# Altium integrated library Hasel Smart Surface Lib.IntLib: 11 symbols
Pins are listed as number, name and electrical type; pins without a type are passive.

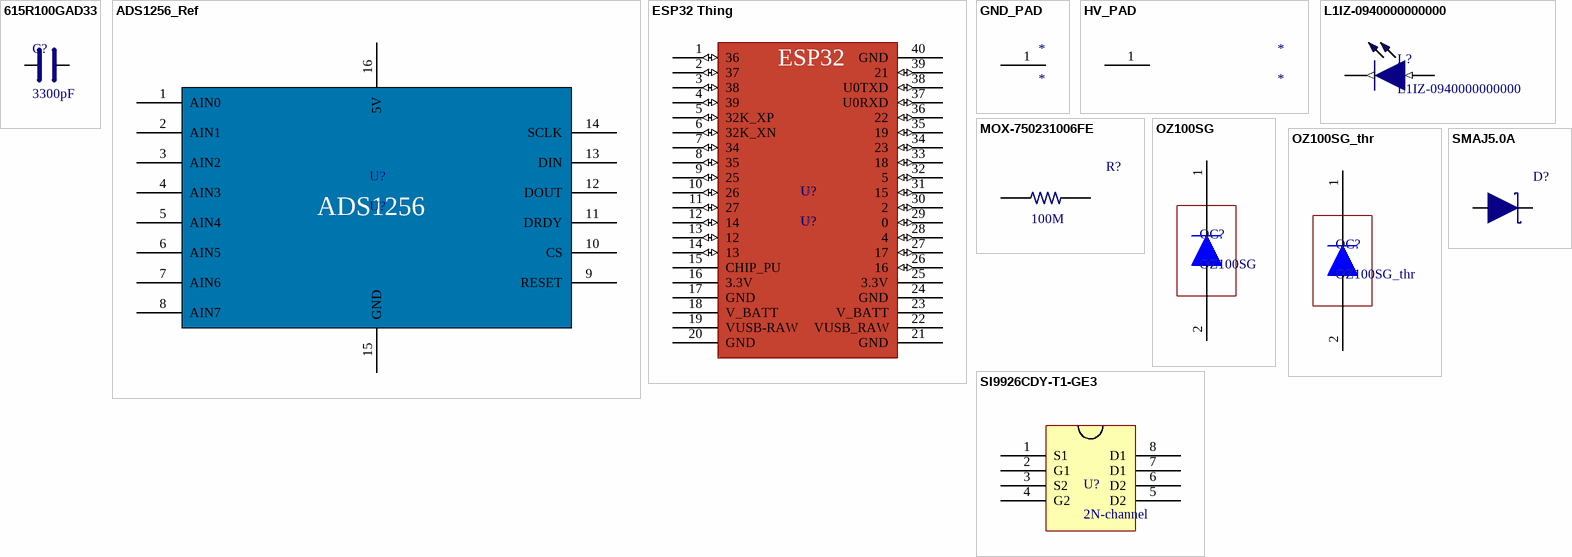
[diagram p0: symbols 615R100GAD33 to SMAJ5.0A]

## 615R100GAD33
designator C?  value 3300pF  (hidden comment: 615R100GAD33)
3300pF 10kV Ceramic Cap; Manufacturer: Vishay/ Cera-mite; Supplier: Mouser; Unit Price: $3.47; Voltage Rated: 10kV; Manufacturer Part Number: 615R100GAD33; Supplier Part Number: 75-615R100GAD33
footprint 615R100GAD33
pins: 1, 2

## ADS1256_Ref
designator U?, comment U?
pins: 1 AIN0, 2 AIN1, 3 AIN2, 4 AIN3, 5 AIN4, 6 AIN5, 7 AIN6, 8 AIN7, 9 RESET, 10 CS, 11 DRDY, 12 DOUT, 13 DIN, 14 SCLK, 15 GND, 16 5V
text: ADS1256

## ESP32 Thing
designator U?, comment U?
footprint ESP32 Thing
pins: 1 36 (io), 2 37 (io), 3 38 (io), 4 39 (io), 5 32K_XP (io), 6 32K_XN (io), 7 34 (io), 8 35 (io), 9 25 (io), 10 26 (io), 11 27 (io), 12 14 (io), 13 12 (io), 14 13 (io), 15 CHIP_PU, 16 3.3V (power), 17 GND (power), 18 V_BATT (power), 19 VUSB-RAW (power), 20 GND (power), 21 GND (power), 22 VUSB_RAW (power), 23 V_BATT (power), 24 GND (power), 25 3.3V (power), 26 16 (io), 27 17 (io), 28 4 (io), 29 0 (io), 30 2 (io), 31 15 (io), 32 5 (io), 33 18 (io), 34 23 (io), 35 19 (io), 36 22 (io), 37 U0RXD (io), 38 U0TXD (io), 39 21 (io), 40 GND (power)
text: ESP32

## GND_PAD
designator *
footprint GND_PAD
pins: 1

## HV_PAD
designator *
footprint HV_PAD
pins: 1

## L1IZ-0940000000000
designator L?
Infrared (IR) Emitter 940nm 2.9V 1A 300mW/sr @ 1A (Typ) 150° 2-SMD, No Lead; Manufacturer: Lumileds; Manufacturer Part Number: L1IZ-0940000000000; Supplier: Digikey; Unit Price: $3.6; Digikey Part Number: 1416-1998-1-ND
footprint L1IZ-0940000000000
pins: 1 A (in), 2 K (out)

## MOX-750231006FE
designator R?  value 100M  (hidden comment: MOX-750231006FE)
RES 100M OHM 1W 1% AXIAL; Manufacturer: Ohmite; Package: Through hole; Manufacturer Part Number: MOX-750231006FE; Digikey Part Number: MOX750F-100ME-ND; Power (Watts): 1W; Unit Price: $8.61; Supplier: Digikey
footprint MOX-750231006FE
pins: 1, 2

## OZ100SG
designator OC?
10kV 12V fw Optodiode; Manufacturer: Voltage Multiplier Inc; Manufacturer Part Number: OZ100SG; Supplier: Voltage Multiplier Inc.; Unit Price: $20
footprint OZ100SG
pins: 1 K, 2 A

## OZ100SG_thr
designator OC?
10kV 12V fw Optodiode; Manufacturer: Voltage Multiplier Inc; Manufacturer Part Number: OZ100SG; Supplier: Voltage Multiplier Inc.; Unit Price: $20
footprint OZ100SG_thr
pins: 1 K, 2 A

## SI9926CDY-T1-GE3
designator U?, comment 2N-channel
Dual N Channel MOSFET 8A 3W
pins: 1 S1, 2 G1, 3 S2, 4 G2, 5 D2, 6 D2, 7 D1, 8 D1

## SMAJ5.0A
designator D?  (value not drawn)
TVS DIODE 5V 9.2V DO214AC; Manufacturer: Littelfuse Inc.; Package: DO-214AC; Manufacturer Part Number: SMAJ5.0A; Digikey Part Number: SMAJ5.0ALFTR-ND; Unit Price: $0.52; Supplier: Digikey
footprint SMAJ5.0A
pins: 1, 2